# EAGLE library part RELAIS_4-POL-UM (library e-schuetze-relais)
Relais mit 2 Wechsleschalter
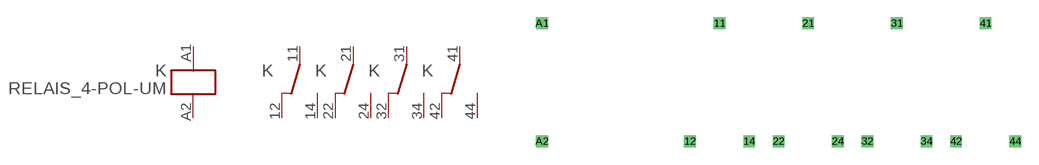
[diagram p19: symbol with the pads of RELAIS_4-POL-UM; footprint RELAIS_4-POL-UM]

Designator prefix K; gates G$1=SPULE 1=WECHSLER 2=WECHSLER 3=WECHSLER 4=WECHSLER

## RELAIS_4-POL-UM  [RELAIS_4-POL-UM]
11  1:1  pas
12  1:2  pas
14  1:4  pas
21  2:1  pas
22  2:2  pas
24  2:4  pas
31  3:1  pas
32  3:2  pas
34  3:4  pas
41  4:1  pas
42  4:2  pas
44  4:4  pas
A1  G$1:A1  in
A2  G$1:A2  in

## Footprint RELAIS_4-POL-UM (pad centres in mm)
Dummy
drill 0.5 pad 1 square: 11 5.08,2.54; 12 2.54,-7.62; 14 7.62,-7.62; 21 12.7,2.54; 22 10.16,-7.62; 24 15.24,-7.62; 31 20.32,2.54; 32 17.78,-7.62; 34 22.86,-7.62; 41 27.94,2.54; 42 25.4,-7.62; 44 30.48,-7.62; A1 -10.16,2.54; A2 -10.16,-7.62